# Altium footprint library SnapEDApcb.PcbLib: 1 footprints
Each footprint in its own frame and in the unit in brackets; x right, y up, seen from the top. Pads: shape width x height; smd on the part's side, far side on the other; paste and mask are expansions set on the pad; w line width, h text height; cw(c..) or ccw(c..) is an arc to the next point about the centre after c.
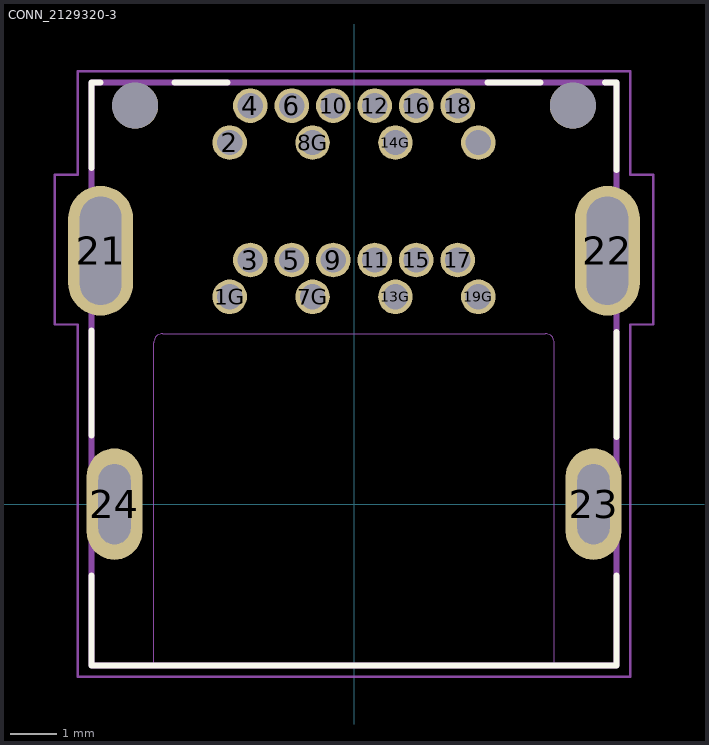
[diagram p0: the footprint, top view; thin cyan lines are the x and y axes]

## CONN_2129320-3 [mm]
pads (30):
  round 0.75 hole 0.55: 1G(-2.7,4.5) 2(-2.7,7.85) 3(-2.25,5.3) 4(-2.25,8.65) 5(-1.35,5.3) 6(-1.35,8.65) 7G(-0.9,4.5) 8G(-0.9,7.85) 9(-0.45,5.3) 10(-0.45,8.65) 11(0.45,5.3) 12(0.45,8.65) 13G(0.9,4.5) 14G(0.9,7.85) 15(1.35,5.3) 16(1.35,8.65) 17(2.25,5.3) 18(2.25,8.65) 19G(2.7,4.5) 20_POWER(2.7,7.85)
  oval 1.408x2.816 hole 0.9 slot 2.35 at 90 deg: 21(-5.5,5.5) 22(5.5,5.5)
  oval 1.208x2.416 hole 0.7 slot 1.74 at 90 deg: 23(5.2,0) 24(-5.2,0)
  round 0.9 hole 0.9 unplated: ""(-5.5,5.5) ""(5.5,5.5)
  round 0.7 hole 0.7 unplated: ""(-5.2,0) ""(5.2,0)
  round 1 hole 1 unplated: ""(-4.75,8.65) ""(4.75,8.65)
Top Overlay:
  lines w0.127: -5.7,-1.55 -5.7,-3.5 5.7,-3.5 5.7,-1.55 ; -5.7,1.49 -5.7,3.77 ; -5.7,7.3 -5.7,9.15 -5.5,9.15 ; -3.9,9.15 -2.75,9.15 ; 2.9,9.15 4.05,9.15 ; 5.45,9.15 5.7,9.15 5.7,7.25 ; 5.7,1.46 5.7,3.74
Mechanical 1:
  lines w0: -4.35,-3.5 -4.35,3.5 cw(c-4.15,3.5) -4.15,3.7 4.15,3.7 cw(c4.15,3.5) 4.35,3.5 4.35,-3.5
Mechanical 13:
  lines w0.127: -5.7,-3.5 5.7,-3.5 5.7,9.15 -5.7,9.15 -5.7,-3.5
Mechanical 15:
  lines w0.05: -6.5,3.9 -6,3.9 -6,-3.75 6,-3.75 6,3.9 6.5,3.9 6.5,7.15 6,7.15 6,9.4 -6,9.4 -6,7.15 -6.5,7.15 -6.5,3.9